# EAGLE library part TPS54160 (library IC & Transistor)
TPS54160 1.5-A, 60-V, Step-Down DC/DC Converter with Eco-mode. Created by: Wai Weng
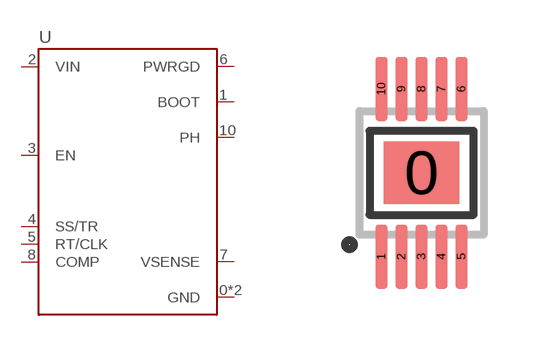
[diagram p84: symbol with the pads of MSOP-10; footprint MSOP-10]

Designator prefix U

## TPS54160 (DESC: S TPS54160 Buck Converter MSOP10; MF: Texas Instruments; MPN: TPS54160DGQ)  [MSOP-10]
0  GND
1  BOOT
2  VIN
3  EN
4  SS/TR
5  RT/CLK
6  PWRGD
7  VSENSE
8  COMP
9  GND
10  PH

## Footprint MSOP-10 (pad centres in mm)
PowerPAD Plastic Small Outline (S-PDSO-G10) Size: 3.10mm x 3.10mm Pitch: 0.5mm Created by: Wai Weng
smd 1.88 x 1.57: 0 0,0
smd 0.3 x 1.6: 1 -1,-2.1; 2 -0.5,-2.1; 3 0,-2.1; 4 0.5,-2.1; 5 1,-2.1; 6 1,2.1; 7 0.5,2.1; 8 0,2.1; 9 -0.5,2.1; 10 -1,2.1